# Altium footprint library MINI-CIRCUITS_ADE.PcbLib: 1 footprints
Each footprint in its own frame and in the unit in brackets; x right, y up, seen from the top. Pads: shape width x height; smd on the part's side, far side on the other; paste and mask are expansions set on the pad; w line width, h text height; cw(c..) or ccw(c..) is an arc to the next point about the centre after c.
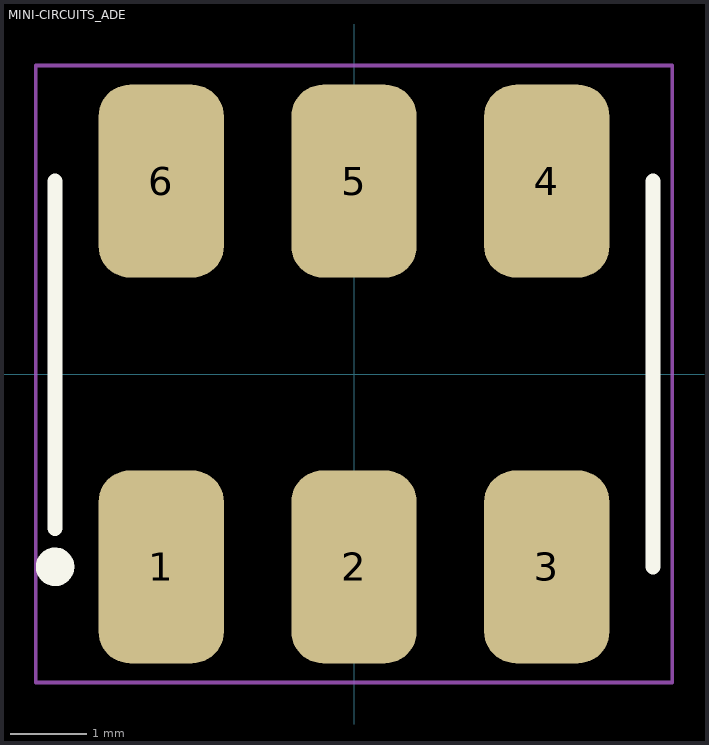
[diagram p0: the footprint, top view; thin cyan lines are the x and y axes]

## MINI-CIRCUITS_ADE [mil]
pads (6):
  rrect50% 65x100 smd: 1(-100,-100) 2(0,-100) 3(100,-100) 4(100,100) 5(0,100) 6(-100,100)
Top Overlay:
  circle w10: c-155,-100 r5
  lines w7.87: -155,-80 -155,100 ; 155,-100 155,100
Mechanical 15:
  lines w1.97: -165,-160 165,-160 165,160 -165,160 -165,-160
3D body: height 210, standoff 0, extent -155,-100 155,100